# Altium footprint library myTransistors&Diodes.PcbLib: 14 footprints
Each footprint in its own frame and in the unit in brackets; x right, y up, seen from the top. Pads: shape width x height; smd on the part's side, far side on the other; paste and mask are expansions set on the pad; w line width, h text height; cw(c..) or ccw(c..) is an arc to the next point about the centre after c.
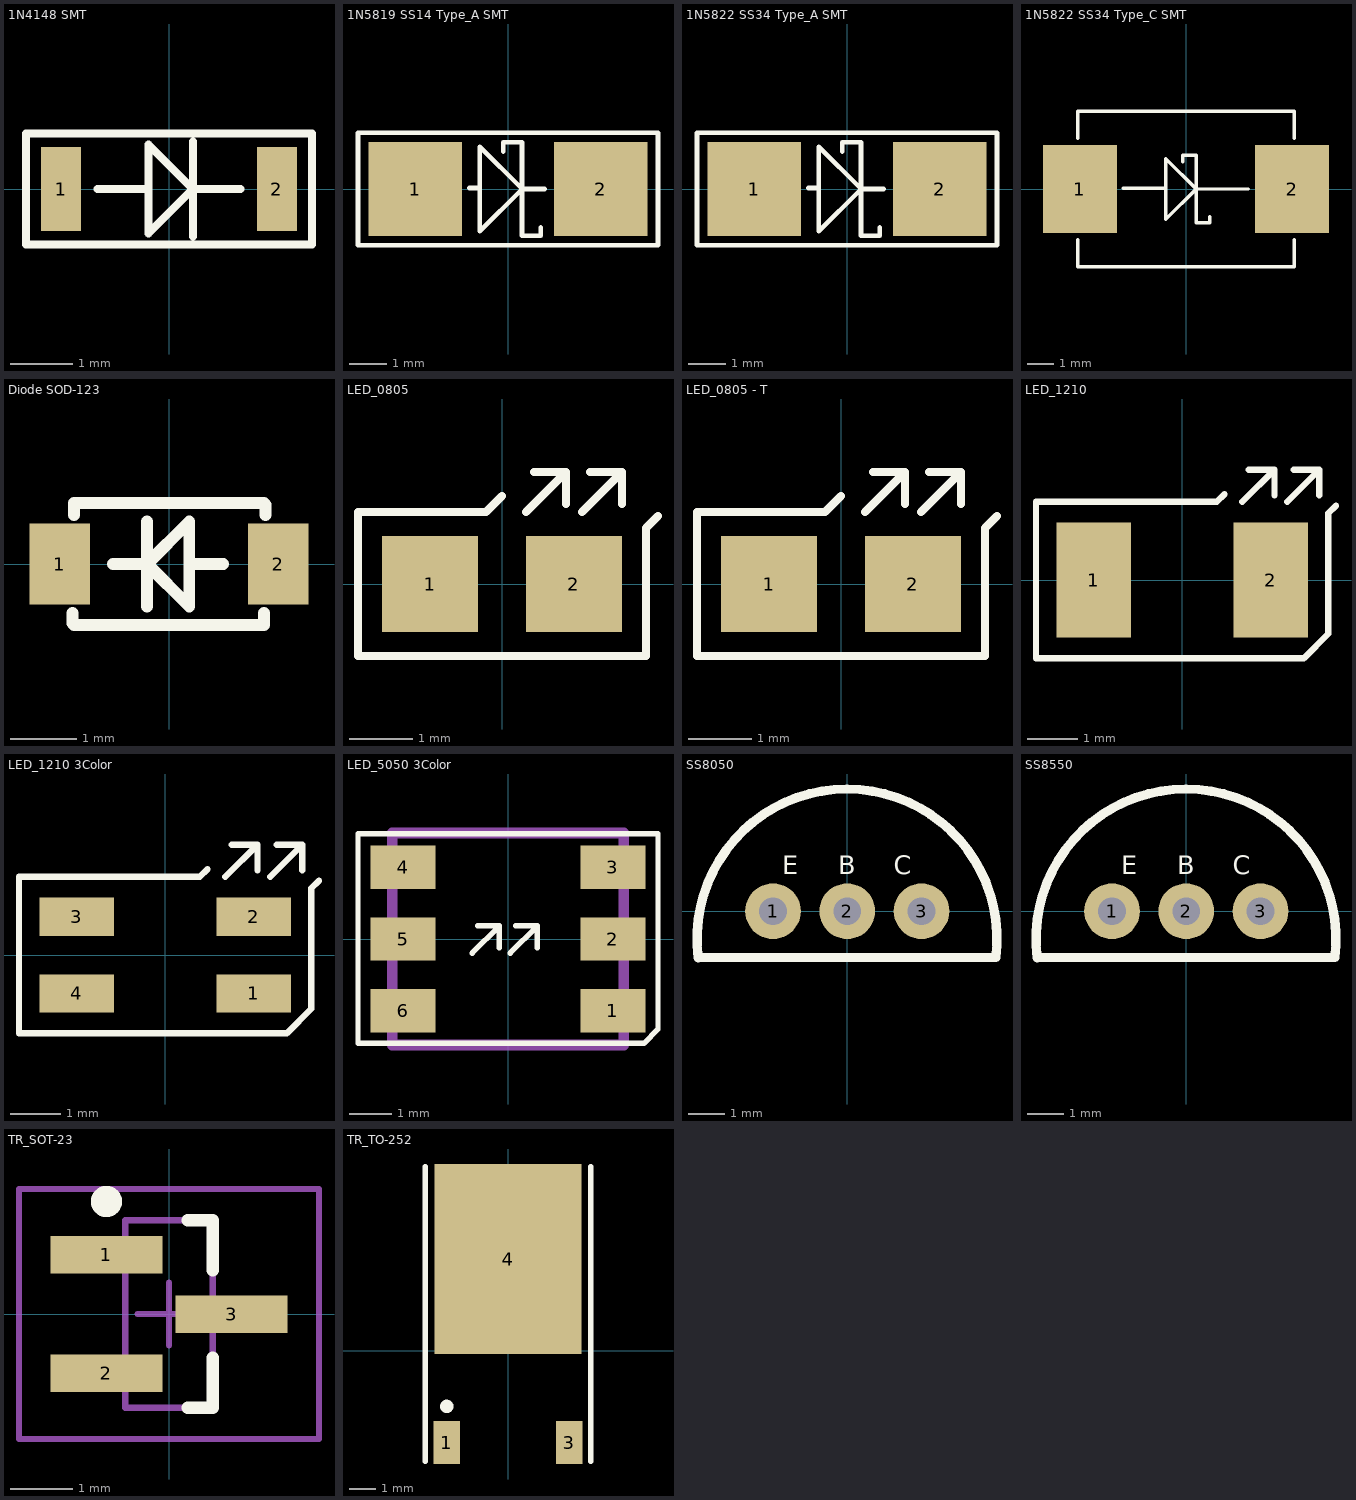
[diagram p0: the footprints below, top view; thin cyan lines are the x and y axes]

## 1N4148 SMT [mil]
height 60
pads (2):
  rect 25x53 smd: 1(-68,0) 2(68,0)
Top Overlay:
  lines w5: -45,0 -13,0 ; 15,-30 15,30 ; 45,0 15,0 ; 15,0 -13,-28 -13,28 15,0 ; -90,-35 -90,35 90,35 90,-35 -90,-35
3D body: height 60, standoff 0, extent -83,-29 83,29

## 1N5819 SS14 Type_A SMT [mil]
height 91
pads (2):
  rect 100x100 smd: 1(-99,0) 2(99,0)
Top Overlay:
  lines w5: -41,1 -30,1 ; -5,40 -5,50 15,50 15,-50 35,-50 35,-41 ; 39,0 15,0 ; 15,0 -30,45 -30,-45 15,0 ; -160,-60 160,-60 160,60 -160,60 -160,-60
3D body: height 91, standoff 0, extent -151,-52 151,52

## 1N5822 SS34 Type_A SMT [mil]
height 91
pads (2):
  rect 100x100 smd: 1(-99,0) 2(99,0)
Top Overlay:
  lines w5: -41,1 -30,1 ; -5,40 -5,50 15,50 15,-50 35,-50 35,-41 ; 39,0 15,0 ; 15,0 -30,45 -30,-45 15,0 ; -160,-60 160,-60 160,60 -160,60 -160,-60
3D body: height 91, standoff 0, extent -151,-52 151,52

## 1N5822 SS34 Type_C SMT [mil]
height 91
pads (2):
  rect 110x130 smd: 1(-157,0) 2(157,0)
Top Overlay:
  lines w5: -160,-75 -160,-115 160,-115 160,-75 ; -160,75 -160,115 160,115 160,75 ; -93,1 -30,1 ; -5,40 -5,50 15,50 15,-50 35,-50 35,-41 ; 92,0 15,0 ; 15,0 -30,45 -30,-45 15,0
3D body: height 91, standoff 0, extent -160,-115 160,115

## Diode SOD-123 [mm]
height 1.2
pads (2):
  rect 0.91x1.22 smd: 1(-1.64,0) 2(1.64,0)
Top Overlay:
  lines w0.178: -1.448,-0.737 -1.448,-0.889 -1.422,-0.914 1.422,-0.914 1.422,-0.737 ; -1.422,0.737 -1.422,0.914 1.422,0.914 1.448,0.889 1.448,0.737 ; -0.838,0 -0.33,0 ; -0.33,-0.635 -0.33,0.635 ; 0.305,0 0.813,0 ; -0.33,0 0.305,-0.635 0.305,0.635 -0.33,0
3D body: height 1.2, standoff 0, extent -1.397,-0.889 1.397,0.889

## LED_0805 [mil]
height 33
pads (2):
  rect 60x60 smd: 1(-45,0) 2(45,0)
Top Overlay:
  lines w5: 0,55 -10,45 -90,45 -90,-45 -77.5,-45 -12.5,-45 90,-45 90,30 90,35 97.5,42.5 ; 15,45 40,70 ; 20,70 40,70 ; 40,50 40,70 ; 50,45 75,70 ; 55,70 75,70 ; 75,50 75,70
3D body: height 33, standoff 0, extent -79,-34 79,34

## LED_0805 - T [mil]
height 33
pads (2):
  rect 60x60 smd: 1(-45,0) 2(45,0)
Top Overlay:
  lines w5: 0,55 -10,45 -90,45 -90,-45 -77.5,-45 -12.5,-45 90,-45 90,30 90,35 97.5,42.5 ; 15,45 40,70 ; 20,70 40,70 ; 40,50 40,70 ; 50,45 75,70 ; 55,70 75,70 ; 75,50 75,70
3D body: height 33, standoff 0, extent -79,-34 79,34

## LED_1210 [mil]
height 69
pads (2):
  rect 58x90 smd: 1(-69,0) 2(69,0)
Top Overlay:
  lines w5: 33,67 27,61 -114,61 -114,-61 95,-61 114,-42 114,52 120,58 ; 47,61 72,86 ; 52,86 72,86 ; 72,66 72,86 ; 82,61 107,86 ; 87,86 107,86 ; 107,66 107,86
3D body: height 69, standoff 0, extent -70,-61 70,61

## LED_1210 3Color [mil]
height 69
pads (4):
  rect 58x30 smd: 1(69,-30) 2(69,30) 3(-69,30) 4(-69,-30)
Top Overlay:
  lines w5: 33,67 27,61 -114,61 -114,-61 95,-61 114,-42 114,52 120,58 ; 47,61 72,86 ; 52,86 72,86 ; 72,66 72,86 ; 82,61 107,86 ; 87,86 107,86 ; 107,66 107,86
3D body: height 69, standoff 0, extent -70,-61 70,61

## LED_5050 3Color [mil]
height 60
pads (6):
  rect 60x40 smd: 1(96.5,-66) 2(96.5,0) 3(96.5,66) 4(-96.5,66) 5(-96.5,0) 6(-96.5,-66)
Top Overlay:
  lines w5: -33,-13 -8,12 ; -28,12 -8,12 ; -8,-8 -8,12 ; 2,-13 27,12 ; 7,12 27,12 ; 27,-8 27,12 ; -138,-96 -138,97 138,97 138,-83 125,-96 -138,-96
Mechanical 13:
  lines w10: -106.5,-97.5 -106.5,97.5 106.5,97.5 106.5,-97.5 -106.5,-97.5
3D body: height 60, standoff 0, extent -106.5,-97.5 106.5,97.5

## SS8050 [mil] "NPN"
pads (3):
  round 60 hole 30: 1(-80,0) 2(0,0) 3(80,0)
Top Overlay:
  lines w10: -160.61,-50.08 cw(c-0.31,-29.96) 160,-50 -160,-50
  text "E" at -70,40 h20
  text "B" at -10,40 h20
  text "C" at 50,40 h20

## SS8550 [mil] "PNP"
pads (3):
  round 60 hole 30: 1(-80,0) 2(0,0) 3(80,0)
Top Overlay:
  lines w10: -160.61,-50.08 cw(c-0.31,-29.96) 160,-50 -160,-50
  text "C" at 50,40 h20
  text "B" at -10,40 h20
  text "E" at -70,40 h20

## TR_SOT-23 [mm] "SOT23, 3-Leads, Body 2.9x1.3mm, Pitch 0.95mm, Lead Span 2.5mm, IPC Low Density"
height 1.1
pads (3):
  rect 1.8x0.6 smd: 1(-1,0.95) 2(-1,-0.95) 3(1,0)
Top Overlay:
  circle w0.25: c-1,1.8 r0.125
  lines w0.2: 0.3,-1.5 0.7,-1.5 0.7,-0.7 ; 0.3,1.5 0.7,1.5 0.7,0.7
Mechanical 13:
  lines w0.1: -0.7,-1.5 0.7,-1.5 0.7,1.5 -0.7,1.5 -0.7,-1.5
Mechanical 15:
  lines w0.1: -0.5,0 0.5,0 ; 0,-0.5 0,0.5 ; -2.4,-2 2.4,-2 2.4,2 -2.4,2 -2.4,-2
3D body: height 1.1, standoff 0, extent -0.7,-1.5 0.7,1.5

## TR_TO-252 [mm] "D-PAK/TO-252-AA; 3 Leads (1 Cropped); Body 10.4 (inc. leads) x 6.7 mm (LxW max)"
height 2.38
pads (3):
  rect 1x1.6 smd: 1(-2.285,-3.425) 3(2.285,-3.425)
  rect 5.5x7.1 smd: 4(0,3.425)
Top Overlay:
  circle w0.25: c-2.285,-2.075 r0.125
  lines w0.2: -3.085,-4.125 -3.085,6.875 ; 3.085,-4.125 3.085,6.875